# Altium schematic symbol library hc-sr04.SchLib: 1 symbol
Pins are listed as number, name and electrical type; pins without a type are passive.

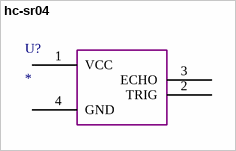
[diagram p0: symbol hc-sr04]

## hc-sr04
designator U?
pins: 1 VCC, 2 TRIG, 3 ECHO, 4 GND